# EAGLE library part DISPLAY (library lmhs)
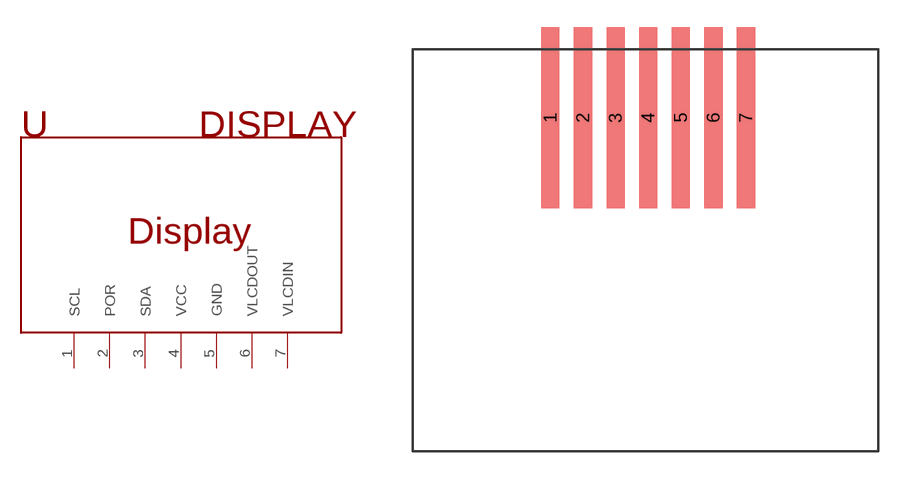
[diagram p0: symbol with the pads of DISPLAY; footprint DISPLAY]

Designator prefix -

## DISPLAY  [DISPLAY]
1  SCL
2  POR
3  SDA
4  VCC
5  GND
6  VLCDOUT
7  VLCDIN

## Footprint DISPLAY (pad centres in mm)
smd 1 x 10: 1 0,-3.8; 2 1.8,-3.8; 3 3.6,-3.8; 4 5.4,-3.8; 5 7.2,-3.8; 6 9,-3.8; 7 10.8,-3.8